# Altium schematic symbol library IPMCv01_PCB_Project.SCHLIB: 21 symbols
Pins are listed as number, name and electrical type; pins without a type are passive.

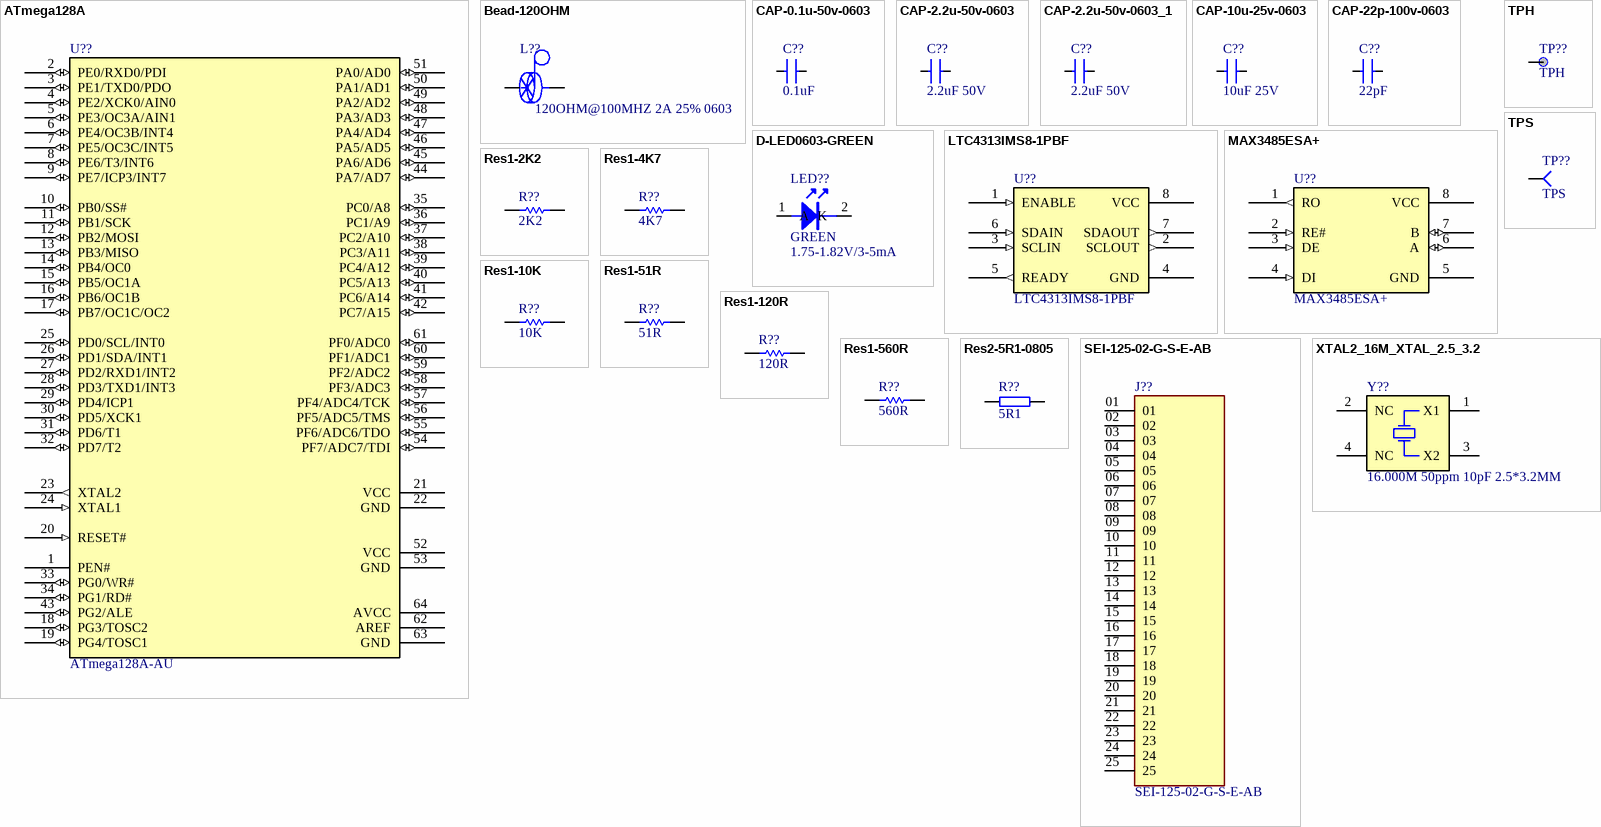
[diagram p0: symbols ATmega128A to XTAL2_16M_XTAL_2.5_3.2]

## ATmega128A
designator U??, comment ATmega128A-AU
No Description Available; Mfr_Name: Microchip; Copyright: Copyright (C) 2022 Ultra Librarian. All rights reserved.; Manufacturer_Part_Number: ATmega128A-AU; RefDes: RefDes; Type: DEV
footprint 64A_ATM
footprint 64M1_MCH
pins: 1 PEN#, 2 PE0/RXD0/PDI (io), 3 PE1/TXD0/PDO (io), 4 PE2/XCK0/AIN0 (io), 5 PE3/OC3A/AIN1 (io), 6 PE4/OC3B/INT4 (io), 7 PE5/OC3C/INT5 (io), 8 PE6/T3/INT6 (io), 9 PE7/ICP3/INT7 (io), 10 PB0/SS# (io), 11 PB1/SCK (io), 12 PB2/MOSI (io), 13 PB3/MISO (io), 14 PB4/OC0 (io), 15 PB5/OC1A (io), 16 PB6/OC1B (io), 17 PB7/OC1C/OC2 (io), 18 PG3/TOSC2 (io), 19 PG4/TOSC1 (io), 20 RESET# (in), 21 VCC (power), 22 GND (power), 23 XTAL2 (out), 24 XTAL1 (in), 25 PD0/SCL/INT0 (io), 26 PD1/SDA/INT1 (io), 27 PD2/RXD1/INT2 (io), 28 PD3/TXD1/INT3 (io), 29 PD4/ICP1 (io), 30 PD5/XCK1 (io), 31 PD6/T1 (io), 32 PD7/T2 (io), 33 PG0/WR# (io), 34 PG1/RD# (io), 35 PC0/A8 (io), 36 PC1/A9 (io), 37 PC2/A10 (io), 38 PC3/A11 (io), 39 PC4/A12 (io), 40 PC5/A13 (io), 41 PC6/A14 (io), 42 PC7/A15 (io), 43 PG2/ALE (io), 44 PA7/AD7 (io), 45 PA6/AD6 (io), 46 PA5/AD5 (io), 47 PA4/AD4 (io), 48 PA3/AD3 (io), 49 PA2/AD2 (io), 50 PA1/AD1 (io), 51 PA0/AD0 (io), 52 VCC (power), 53 GND (power), 54 PF7/ADC7/TDI (io), 55 PF6/ADC6/TDO (io), 56 PF5/ADC5/TMS (io), 57 PF4/ADC4/TCK (io), 58 PF3/ADC3 (io), 59 PF2/ADC2 (io), 60 PF1/ADC1 (io), 61 PF0/ADC0 (io), 62 AREF, 63 GND (power), 64 AVCC (power)

## Bead-120OHM
designator L??, comment 120OHM@100MHZ 2A 25% 0603
PartNumber: BLM18PG121SH1; Manufacturer: Murata; TYPE: Bead; VALUE: 120OHM@100MHZ 2A 25% 0603
footprint 1206
footprint 0805L
footprint 0603L
pins: 1, 2

## CAP-0.1u-50v-0603
designator C??, comment 0.1uF
X7R AEC-Q200; PartNumber: GCJ188R71H104KA12; Manufacturer: muRata; VALUE: 0.1uF 50V 0603; TYPE: X7R AEC-Q200
footprint 0603C
pins: 1, 2

## CAP-2.2u-50v-0603
designator C??, comment 2.2uF 50V
X5R AEC-Q200; PartNumber: GRT188R61H225KE13; Manufacturer: muRata; TYPE: X5R AEC-Q200; VALUE: 2.2uF 50V
footprint 0603C
pins: 1, 2

## CAP-2.2u-50v-0603_1
designator C??, comment 2.2uF 50V
X5R AEC-Q200; PartNumber: GRT188R61H225KE13; Manufacturer: muRata; TYPE: X5R AEC-Q200; VALUE: 2.2uF 50V
footprint 0603C
pins: 1, 2

## CAP-10u-25v-0603
designator C??, comment 10uF 25V
X5R AEC-Q200; PartNumber: GRT188R61E106ME13; Manufacturer: muRata; TYPE: X5R AEC-Q200; VALUE: 10uF 25V
footprint 0603C
pins: 1, 2

## CAP-22p-100v-0603
designator C??, comment 22pF
C0G AEC-Q200; PartNumber: GCM1885C2A220JA16; Manufacturer: muRata; VALUE: 22pF 100V 0603; TYPE: C0G AEC-Q200; PartNumber2: GCH1885C2A220JE01
footprint 0603C
pins: 1, 2

## D-LED0603-GREEN
designator LED??, comment GREEN
1.75-1.82V/3-5mA; PartNumber: *; Manufacturer: *; TYPE: *; Parameter 1: 1.75-1.82V/3-5mA
footprint 0603LED (Footprint not found)
pins: 1 A, 2 K

## LTC4313IMS8-1PBF
designator U??
No Description Available; Mfr_Name: Analog Devices Inc; RefDes: RefDes; Type: Type
footprint MSOP-8_MS_LIT
pins: 1 ENABLE (in), 2 SCLOUT (out), 3 SCLIN (in), 4 GND (power), 5 READY (out), 6 SDAIN (in), 7 SDAOUT (out), 8 VCC (power)

## MAX3485ESA+
designator U??
No Description Available; Mfr_Name: Analog Devices Inc; RefDes: RefDes; Type: Type
footprint 21-0041B_8_MXM
pins: 1 RO (out), 2 RE# (in), 3 DE (in), 4 DI (in), 5 GND (power), 6 A (io), 7 B (io), 8 VCC (power)

## Res1-2K2
designator R??, comment 2K2
1%/0603; PartNumber: AC0603FR-072K2L; Manufacturer: YAGEO; VALUE: 2K 1% 0603; TYPE: Q-200
footprint 0603R
pins: 1, 2

## Res1-4K7
designator R??, comment 4K7
1%/0603; PartNumber: AC0603FR-074K7L; Manufacturer: YAGEO; VALUE: 4K7 1% 0603; TYPE: Q-200
footprint 0603R
pins: 1, 2

## Res1-10K
designator R??, comment 10K
1%/0603; PartNumber: AC0603FR-0710KL; Manufacturer: YAGEO; VALUE: 10K 1% 0603; TYPE: Q-200
footprint 0603R
pins: 1, 2

## Res1-51R
designator R??, comment 51R
1%/0603; PartNumber: AC0603FR-0751RL; Manufacturer: YAGEO; VALUE: 51R 1% 0603; TYPE: Q-200
footprint 0603R
pins: 1, 2

## Res1-120R
designator R??, comment 120R
1%/0603; PartNumber: AC0603FR-07120RL; Manufacturer: YAGEO; VALUE: 120R 1% 0603; TYPE: Q-200
footprint 0603R
pins: 1, 2

## Res1-560R
designator R??, comment 560R
1%/0603; PartNumber: AC0603FR-07560RL; Manufacturer: YAGEO; VALUE: 560R 1% 0603; TYPE: Q-200
footprint 0603R
pins: 1, 2

## Res2-5R1-0805
designator R??, comment 5R1
1%/0805; PartNumber: AC0805FR-075R1L; Manufacturer: YAGEO; VALUE: 5R1 1% 0805 1/8W; TYPE: Q-200
footprint 0805R
pins: 1, 2

## SEI-125-02-G-S-E-AB
designator J??
25 Position Spring Compression Contact, Non-Gendered Connector Surface Mount; MF: Samtec; SnapEDA_Link: https://www.snapeda.com/parts/SEI-125-02-G-S-E-AB/Samtec/view-part/?ref=snap; Package: None; Value: *; MP: SEI-125-02-G-S-E-AB; Check_prices: https://www.snapeda.com/parts/SEI-125-02-G-S-E-AB/Samtec/view-part/?ref=eda
footprint SAMTEC_SEI-125-02-G-S-E-AB
pins: 01, 02, 03, 04, 05, 06, 07, 08, 09, 10, 11, 12, 13, 14, 15, 16, 17, 18, 19, 20, 21, 22, 23, 24, 25

## TPH
designator TP??
footprint TP (Footprint not found)
footprint TP_HOLE (Footprint not found)
pins: 1

## TPS
designator TP??
footprint TP (Footprint not found)
footprint TP_SMT (Footprint not found)
pins: 1

## XTAL2_16M_XTAL_2.5_3.2
designator Y??, comment 16.000M 50ppm 10pF 2.5*3.2MM
XTAL AEC-Q200; Manufacturer: ECLIPTEC; PartNumber: EB2532YA12-16.000M TR; VALUE: 16.000M 50ppm 10pF 2.5*3.2MM; TYPE: XTAL AEC-Q200
footprint 24.000M 50ppm 10pF 2.5*3.2MM (Footprint not found)
pins: 1 X1, 2 NC (power), 3 X2, 4 NC (power)